# Altium integrated library WE-SL3 SMD Common Mode Line Filter.IntLib: 6 symbols
Pins are listed as number, name and electrical type; pins without a type are passive.

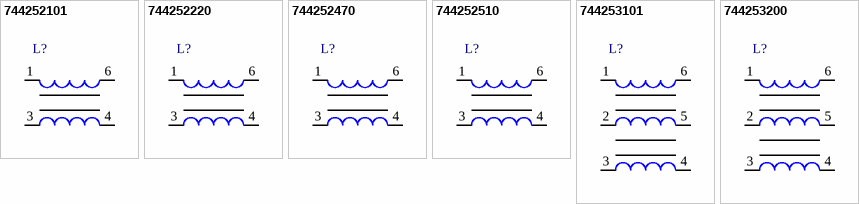
[diagram p0: symbols 744252101 to 744253200]

## 744252101
designator L?
SMD Common Mode Line Filter WE-SL3, L = 100 µH; PartNumber: 744252101; Inductance: 100 µH; DatasheetVersion: ver 2, Oct-2004; PackageReference: WE-SL3-744252X; PackageDescription: SMD Inductor, 4-Leads, Body 6.6 x 9.2 mm; ComponentLink1Description: Manufacturer URL; ComponentLink1URL: http://www.we-online.com; ComponentLink2Description: Datasheet; ComponentLink2URL: http://www.we-online.de/katalog/media/pdf/744252101.pdf
footprint WE-SL3-744252X (SMD Inductor, 4-Leads, Body 6.6x9.2x2.5 mm)
pins: 1, 3, 4, 6

## 744252220
designator L?
SMD Common Mode Line Filter WE-SL3, L = 22.0 µH; PartNumber: 744252220; Inductance: 22.0 µH; DatasheetVersion: ver 2, Oct-2004; PackageReference: WE-SL3-744252X; PackageDescription: SMD Inductor, 4-Leads, Body 6.6 x 9.2 mm; ComponentLink1Description: Manufacturer URL; ComponentLink1URL: http://www.we-online.com; ComponentLink2Description: Datasheet; ComponentLink2URL: http://www.we-online.de/katalog/media/pdf/744252220.pdf
footprint WE-SL3-744252X (SMD Inductor, 4-Leads, Body 6.6x9.2x2.5 mm)
pins: 1, 3, 4, 6

## 744252470
designator L?
SMD Common Mode Line Filter WE-SL3, L = 47.0 µH; PartNumber: 744252470; Inductance: 47.0 µH; DatasheetVersion: ver 2, Oct-2004; PackageReference: WE-SL3-744252X; PackageDescription: SMD Inductor, 4-Leads, Body 6.6 x 9.2 mm; ComponentLink1Description: Manufacturer URL; ComponentLink1URL: http://www.we-online.com; ComponentLink2Description: Datasheet; ComponentLink2URL: http://www.we-online.de/katalog/media/pdf/744252470.pdf
footprint WE-SL3-744252X (SMD Inductor, 4-Leads, Body 6.6x9.2x2.5 mm)
pins: 1, 3, 4, 6

## 744252510
designator L?
SMD Common Mode Line Filter WE-SL3, L = 51.0 µH; PartNumber: 744252510; Inductance: 51.0 µH; DatasheetVersion: ver 2, Oct-2004; PackageReference: WE-SL3-744252X; PackageDescription: SMD Inductor, 4-Leads, Body 6.6 x 9.2 mm; ComponentLink1Description: Manufacturer URL; ComponentLink1URL: http://www.we-online.com; ComponentLink2Description: Datasheet; ComponentLink2URL: http://www.we-online.de/katalog/media/pdf/744252510.pdf
footprint WE-SL3-744252X (SMD Inductor, 4-Leads, Body 6.6x9.2x2.5 mm)
pins: 1, 3, 4, 6

## 744253101
designator L?
SMD Common Mode Line Filter WE-SL3, L = 100 µH; PartNumber: 744253101; Inductance: 100 µH; DatasheetVersion: ver 1, Sep-2006; PackageReference: WE-SL3-744253X; PackageDescription: SMD Inductor, 6-Leads, Body 6.6 x 9.2 mm; ComponentLink1Description: Manufacturer URL; ComponentLink1URL: http://www.we-online.com; ComponentLink2Description: Datasheet; ComponentLink2URL: http://www.we-online.de/katalog/media/pdf/744253101.pdf
footprint WE-SL3-744253X (SMD Inductor, 6-Leads, Body 6.6x9.2x2.5 mm)
pins: 1, 2, 3, 4, 5, 6

## 744253200
designator L?
SMD Common Mode Line Filter WE-SL3, L = 20.0 µH; PartNumber: 744253200; Inductance: 20.0 µH; DatasheetVersion: ver 2, Oct-2004; PackageReference: WE-SL3-744253X; PackageDescription: SMD Inductor, 6-Leads, Body 6.6 x 9.2 mm; ComponentLink1Description: Manufacturer URL; ComponentLink1URL: http://www.we-online.com; ComponentLink2Description: Datasheet; ComponentLink2URL: http://www.we-online.de/katalog/media/pdf/744253200.pdf
footprint WE-SL3-744253X (SMD Inductor, 6-Leads, Body 6.6x9.2x2.5 mm)
pins: 1, 2, 3, 4, 5, 6